# Altium integrated library Specific.IntLib: 21 symbols
Pins are listed as number, name and electrical type; pins without a type are passive.

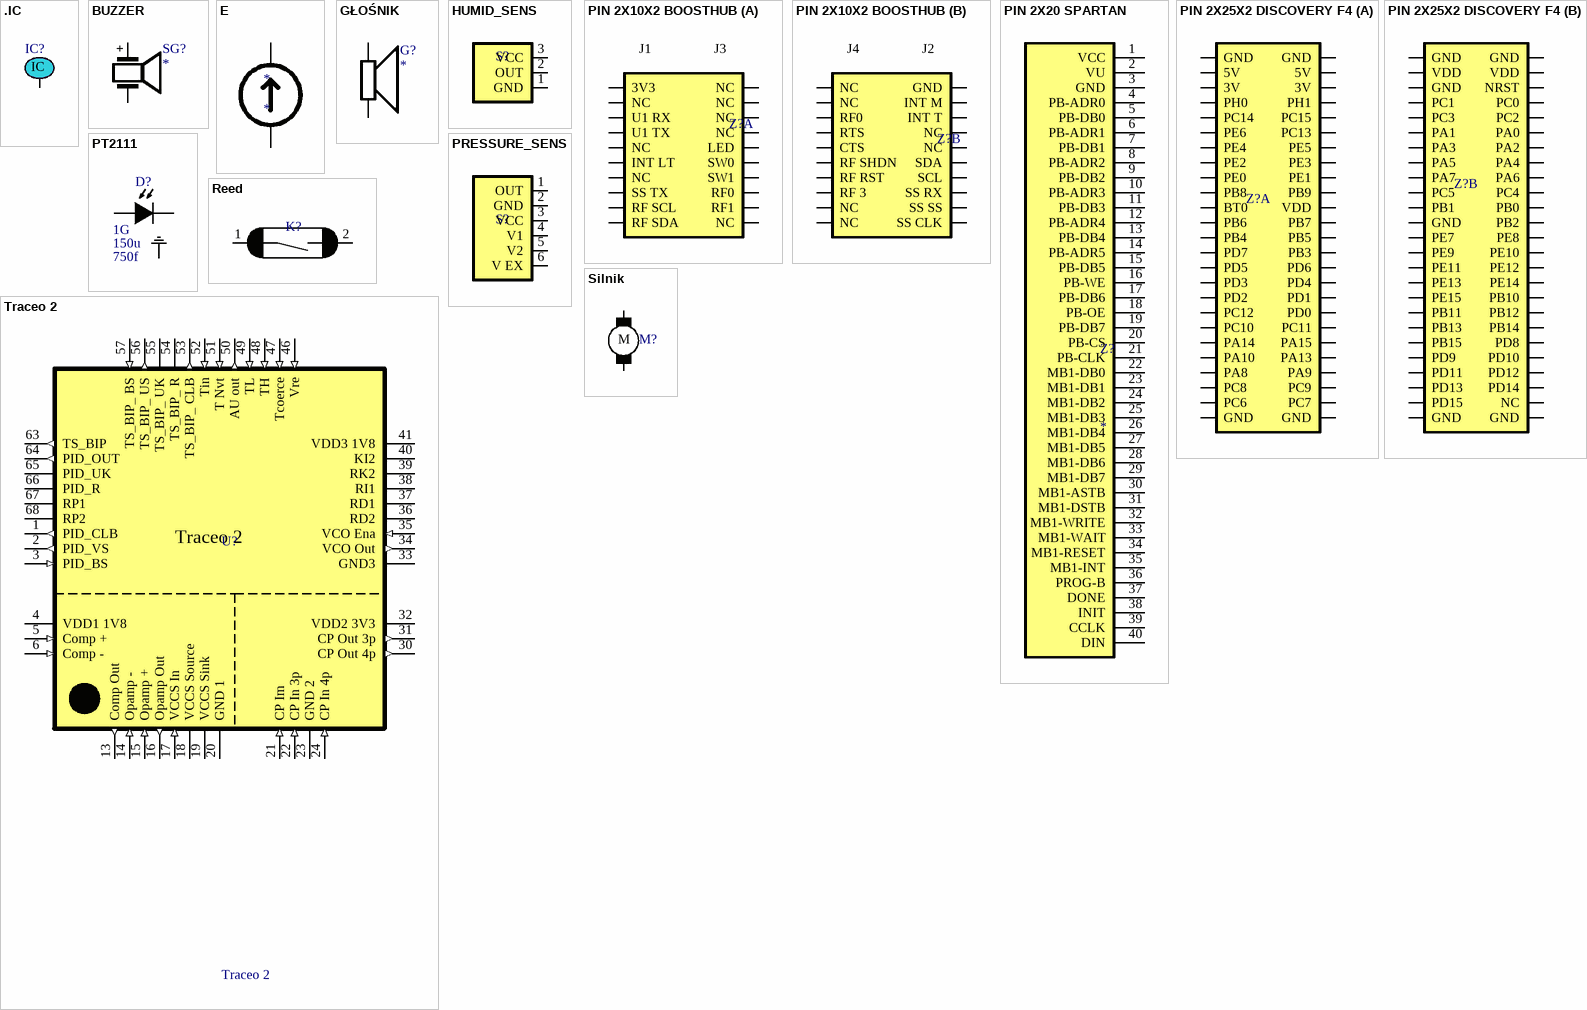
[diagram p0: symbols .IC to Traceo 2]

## .IC
designator IC?  (value not drawn)
Initial Condition
simulation model ControlStatement
pins: 1
text: IC

## BUZZER
designator SG?
Buzzer; Text Field1: Buzzer
footprint ARK 2 125
footprint ARK 2 200
footprint PIN X2
footprint PIN X2
footprint Cap_13_6.3
pins: 1 +, 2 -

## E
designator *
pins: 0, 1

## GŁOŚNIK
designator G?
Głośnik; Text Field1: Głośnik
footprint ARK 2 125
footprint ARK 2 200
simulation model Głośnik
pins: 1, 2

## HUMID_SENS
designator S?  (value not drawn)
Honeywell HIH-4000 Series Humidity sensor
footprint HIH4000
pins: 1 GND, 2 OUT, 3 VCC

## PIN 2X10X2 BOOSTHUB
designator Z?  (value not drawn)
Connectror; 2x20 Pins; 2xDual Row; BOOSTHUB-XL Layout;
footprint PIN 2X10X2 BOOSTHUB
footprint PIN 2X10X2 BOOSTHUB SMD
part A pins: 1 3V3, 2 NC, 3 NC, 4 NC, 5 U1 RX, 6 NC, 7 U1 TX, 8 NC, 9 NC, 10 LED, 11 INT LT, 12 SW0, 13 NC, 14 SW1, 15 SS TX, 16 RF0, 17 RF SCL, 18 RF1, 19 RF SDA, 20 NC
part B pins: 21 NC, 22 GND, 23 NC, 24 INT M, 25 RF0, 26 INT T, 27 RTS, 28 NC, 29 CTS, 30 NC, 31 RF SHDN, 32 SDA, 33 RF RST, 34 SCL, 35 RF 3, 36 SS RX, 37 NC, 38 SS SS, 39 NC, 40 SS CLK
part A text: J1; J3
part B text: J4; J2

## PIN 2X20 SPARTAN
designator Z?
PIN 2x20 do płytki testowej spratan3
footprint PIN 2X20 EDGE
pins: 1 VCC, 2 VU, 3 GND, 4 PB-ADR0, 5 PB-DB0, 6 PB-ADR1, 7 PB-DB1, 8 PB-ADR2, 9 PB-DB2, 10 PB-ADR3, 11 PB-DB3, 12 PB-ADR4, 13 PB-DB4, 14 PB-ADR5, 15 PB-DB5, 16 PB-WE, 17 PB-DB6, 18 PB-OE, 19 PB-DB7, 20 PB-CS, 21 PB-CLK, 22 MB1-DB0, 23 MB1-DB1, 24 MB1-DB2, 25 MB1-DB3, 26 MB1-DB4, 27 MB1-DB5, 28 MB1-DB6, 29 MB1-DB7, 30 MB1-ASTB, 31 MB1-DSTB, 32 MB1-WRITE, 33 MB1-WAIT, 34 MB1-RESET, 35 MB1-INT, 36 PROG-B, 37 DONE, 38 INIT, 39 CCLK, 40 DIN

## PIN 2X25X2 DISCOVERY F4
designator Z?  (value not drawn)
Connectror; 100 Pins;2x Dual Row; STM32F4 Discovery Layout;
footprint PIN 2X25X2 DICOVERY
part A pins: 51 GND, 52 GND, 53 5V, 54 5V, 55 3V, 56 3V, 57 PH0, 58 PH1, 59 PC14, 60 PC15, 61 PE6, 62 PC13, 63 PE4, 64 PE5, 65 PE2, 66 PE3, 67 PE0, 68 PE1, 69 PB8, 70 PB9, 71 BT0, 72 VDD, 73 PB6, 74 PB7, 75 PB4, 76 PB5, 77 PD7, 78 PB3, 79 PD5, 80 PD6, 81 PD3, 82 PD4, 83 PD2, 84 PD1, 85 PC12, 86 PD0, 87 PC10, 88 PC11, 89 PA14, 90 PA15, 91 PA10, 92 PA13, 93 PA8, 94 PA9, 95 PC8, 96 PC9, 97 PC6, 98 PC7, 99 GND, 100 GND
part B pins: 1 GND, 2 GND, 3 VDD, 4 VDD, 5 GND, 6 NRST, 7 PC1, 8 PC0, 9 PC3, 10 PC2, 11 PA1, 12 PA0, 13 PA3, 14 PA2, 15 PA5, 16 PA4, 17 PA7, 18 PA6, 19 PC5, 20 PC4, 21 PB1, 22 PB0, 23 GND, 24 PB2, 25 PE7, 26 PE8, 27 PE9, 28 PE10, 29 PE11, 30 PE12, 31 PE13, 32 PE14, 33 PE15, 34 PB10, 35 PB11, 36 PB12, 37 PB13, 38 PB14, 39 PB15, 40 PD8, 41 PD9, 42 PD10, 43 PD11, 44 PD12, 45 PD13, 46 PD14, 47 PD15, 48 NC, 49 GND, 50 GND

## PRESSURE_SENS
designator S?  (value not drawn)
MPX4100   SERIES Integrated Silicon Pressure Sensor
footprint MPX4100
pins: 1 OUT, 2 GND, 3 VCC, 4 V1, 5 V2, 6 V EX

## PT2111
designator D?  Junction Capacitance: 750f  Equivalent resistance: 1G  Reverse Current: 150u  (hidden comment: *)
PIN photodiode; InGaAs; 1100-1600nm;
footprint PT2111
pins: 1 A, 2 K, 3 (power)

## Reed
designator K?  (value not drawn)
Reed Switch
footprint ark 2 125
pins: 1, 2

## Silnik
designator M?  (value not drawn)
footprint ARK 2 200
footprint ARK 2 125
footprint PIN X2
pins: 1, 2
text: M

## Traceo 2
designator U?
ASIC
footprint PLCC68
footprint PLCC68_SOCKET_THT
pins: 1 PID_CLB (out) "Pin Designator", 2 PID_VS (out) "Pin Designator", 3 PID_BS (in) "Pin Designator", 4 VDD1 1V8 (power) "Pin Designator", 5 Comp + (in) "Pin Designator", 6 Comp - (in) "Pin Designator", 13 Comp Out (out) "Pin Designator", 14 Opamp - (in) "Pin Designator", 15 Opamp + (in) "Pin Designator", 16 Opamp Out (out) "Pin Designator", 17 VCCS In (in) "Pin Designator", 18 VCCS Source (oe) "Pin Designator", 19 VCCS Sink (oc) "Pin Designator", 20 GND 1 (power) "Pin Designator", 21 CP Im (in) "Pin Designator", 22 CP In 3p (in) "Pin Designator", 23 GND 2 (power) "Pin Designator", 24 CP In 4p (in) "Pin Designator", 30 CP Out 4p (out) "Pin Designator", 31 CP Out 3p (out) "Pin Designator", 32 VDD2 3V3 (power) "Pin Designator", 33 GND3 (power) "Pin Designator", 34 VCO Out (out) "Pin Designator", 35 VCO Ena (in) "Pin Designator", 36 RD2 "Pin Designator", 37 RD1 "Pin Designator", 38 RI1 "Pin Designator", 39 RK2 "Pin Designator", 40 KI2 "Pin Designator", 41 VDD3 1V8 (power) "Pin Designator", 46 Vre (in) "Pin Designator", 47 Tcoerce (in) "Pin Designator", 48 TH (in) "Pin Designator", 49 TL (in) "Pin Designator", 50 AU out (out) "Pin Designator", 51 T Nvt (in) "Pin Designator", 52 Tin (in) "Pin Designator", 53 TS_BIP_ CLB (out) "Pin Designator", 54 TS_BIP_ R "Pin Designator", 55 TS_BIP_ UK "Pin Designator", 56 TS_BIP_ US (out) "Pin Designator", 57 TS_BIP_ BS (in) "Pin Designator", 63 TS_BIP (out) "Pin Designator", 64 PID_OUT (out) "Pin Designator", 65 PID_UK "Pin Designator", 66 PID_R "Pin Designator", 67 RP1 "Pin Designator", 68 RP2 "Pin Designator"


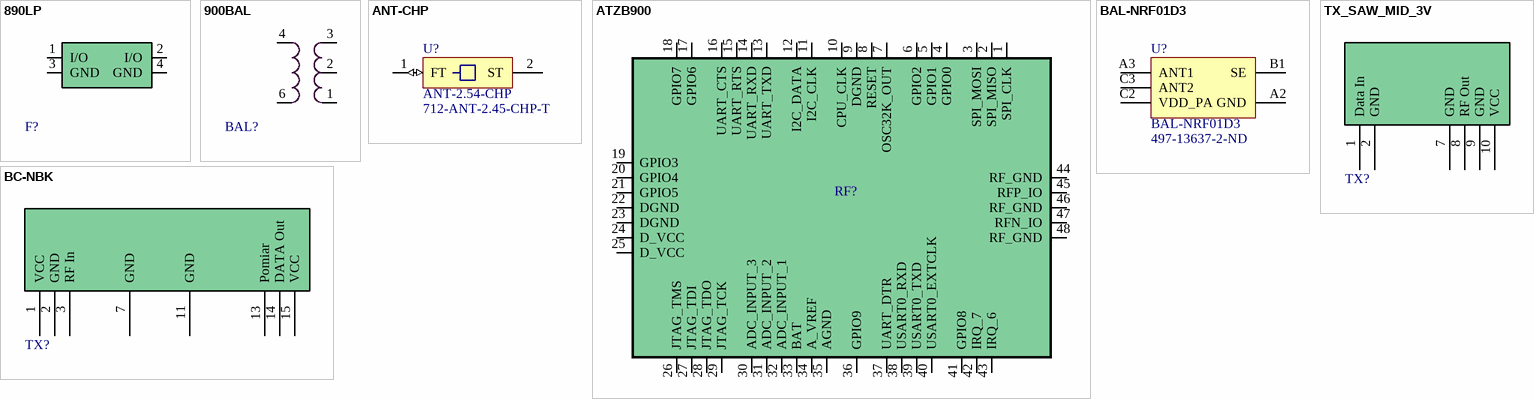
[diagram p1: symbols 890LP to TX_SAW_MID_3V]

## 890LP
designator F?  (value not drawn)
890 MHz Low Pass Filter
footprint 0898LP
pins: 1 I/O (power), 2 I/O, 3 GND, 4 GND

## 900BAL
designator BAL?  (value not drawn)
900 MHz Balun
footprint 0900BL
pins: 1 GND (power), 2 UNB, 3 GND, 4 BAL, 6 BAL

## ANT-CHP
designator U?, comment ANT-2.54-CHP  Supplier Part Number 1: 712-ANT-2.45-CHP-T
ANT-2.54-CHP, 2.45GHz Ultra-Compact Chip Antenna; Supplier 1: Mouser
footprint ANT-CHP (ANT-2.45-CHP)
footprint ANT-CHP_rainsun (ANT-2.45-CHP)
pins: 1 FT (io), 2 ST

## ATZB900
designator RF?  (value not drawn)
ZigBit™ 900 MHz Wireless Module
footprint ATZB900
pins: 1 SPI_CLK, 2 SPI_MISO, 3 SPI_MOSI, 4 GPIO0, 5 GPIO1, 6 GPIO2, 7 OSC32K_OUT, 8 RESET, 9 DGND, 10 CPU_CLK, 11 I2C_CLK, 12 I2C_DATA, 13 UART_TXD, 14 UART_RXD, 15 UART_RTS, 16 UART_CTS, 17 GPIO6, 18 GPIO7, 19 GPIO3, 20 GPIO4, 21 GPIO5, 22 DGND, 23 DGND, 24 D_VCC, 25 D_VCC, 26 JTAG_TMS, 27 JTAG_TDI, 28 JTAG_TDO, 29 JTAG_TCK, 30 ADC_INPUT_3, 31 ADC_INPUT_2, 32 ADC_INPUT_1, 33 BAT, 34 A_VREF, 35 AGND, 36 GPIO9, 37 UART_DTR, 38 USART0_RXD, 39 USART0_TXD, 40 USART0_EXTCLK, 41 GPIO8, 42 IRQ_7, 43 IRQ_6, 44 RF_GND, 45 RFP_IO, 46 RF_GND, 47 RFN_IO, 48 RF_GND

## BAL-NRF01D3
designator U?  Supplier Part Number 1: 497-13637-2-ND
ST BAL-NRF01D31; note: BAL-NRF01D3; Supplier 1: Digi-Key
footprint BAL-NRF01D3
pins: A2 GND, A3 ANT1, B1 SE, C2 VDD_PA, C3 ANT2

## BC-NBK
designator TX?  (value not drawn)
900 MHz Wireless Receiver
footprint BC_NBK
pins: 1 VCC (power), 2 GND, 3 RF In, 7 GND, 11 GND (power), 13 Pomiar, 14 DATA Out, 15 VCC (power)

## TX_SAW_MID_3V
designator TX?  (value not drawn)
900 MHz Wireless transmitter
footprint TX_SW
pins: 1 Data In, 2 GND, 7 GND, 8 RF Out, 9 GND (power), 10 VCC (power)


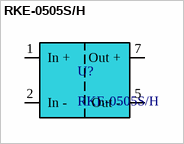
[diagram p2: symbol RKE-0505S/H]

## RKE-0505S/H
designator U?
1 Watt SIP7 Single 5V Output
footprint SIP7-4
pins: 1 In + (power), 2 In - (power), 5 Out - (power), 7 Out + (power)